# Altium schematic symbol library ECEA1EN100UI.SchLib: 1 symbol
Pins are listed as number, name and electrical type; pins without a type are passive.

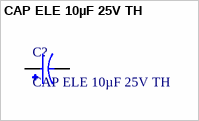
[diagram p0: symbol CAP ELE 10µF 25V TH]

## CAP ELE 10µF 25V TH
designator C?
10µF 25V Aluminum Electrolytic Capacitors Radial Lead Type TH, Dia-5mm, Pitch-2mm ECEA1EN100UI; MF: Panasonic; Package: RADIAL-2 Panasonic; Purchase-URL: https://pricing.snapeda.com/search/part/ECEA1EN100UI/?ref=eda; Value: *; Digi-Key_Part_Number: ECE-A1EN100UI-ND; SnapEDA_Link: https://www.snapeda.com/parts/ECEA1EN100UI/Panasonic/view-part/5788532/?ref=snap; MP: ECEA1EN100UI; Check_prices: https://www.snapeda.com/parts/ECEA1EN100UI/Panasonic/view-part/5788532/?ref=eda
footprint CAPPRD250W50D500H1100
pins: N, P